# EAGLE library part USB-MICRO-B (library Hughes-Connectors)
USB - Micro B Manufacturer: Amphenol FCI Manufacturer Part Number: 10118194-0001LF Description: CONN USB MICRO B RECPT SMT R/A Digi-Key Part <https://www.digikey.com/product-detail/en/amphenol-fci/10118194-0001LF/609-4618-1-ND/2785382>
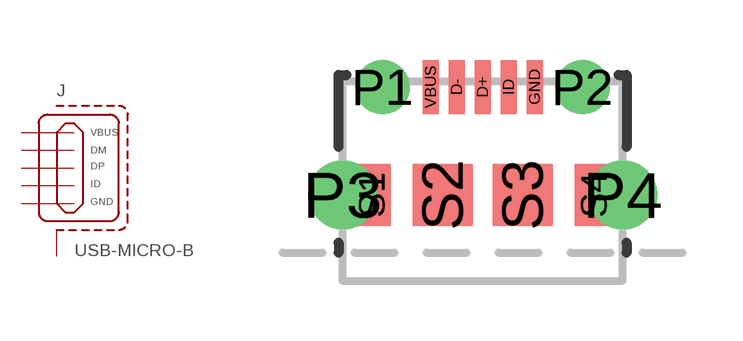
[diagram p1: symbol with the pads of 10118194-0001LF; footprint 10118194-0001LF]

Designator prefix J

## USB-MICRO-B (DIGIKEY#: 609-4618-1-ND; MANF: Amphenol FCI; MANF#: 10118194-0001LF; VALUE: 10118194-0001LF)  [10118194-0001LF]
D+  DP  pas
D-  DM  pas
GND  GND  pas
ID  ID  pas
P1  S1  pas
P2  S1  pas
P3  S1  pas
P4  S1  pas
S1  S1  pas
S2  S1  pas
S3  S1  pas
S4  S1  pas
VBUS  VBUS  pas

## Footprint 10118194-0001LF (pad centres in mm)
FCI - Micro USB - Part# 10118194-0001LF
smd 0.4 x 1.35: D+ 0,2.7; D- -0.65,2.7; GND 1.3,2.7; ID 0.65,2.7; VBUS -1.3,2.7
drill 0.85: P1 -2.5,2.7; P2 2.5,2.7
drill 1.15: P3 -3.5,0; P4 3.5,0
smd 0.95 x 1.55: S1 -2.775,0; S4 2.775,0
smd 1.5 x 1.55: S2 -1,0; S3 1,0